# EAGLE library part MCP23S08-X/ML (library microchip2)
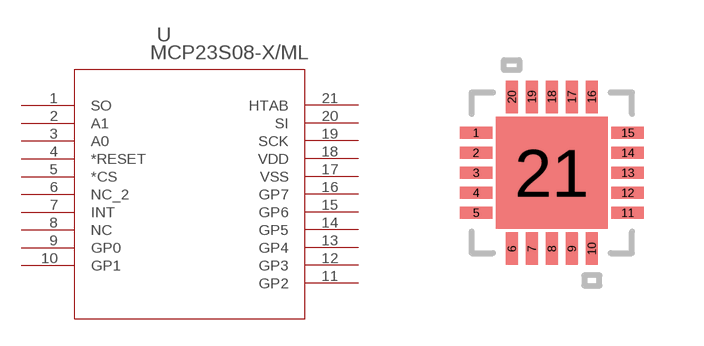
[diagram p3: symbol with the pads of QFN20_4X4MC; footprint QFN20_4X4MC]

Designator prefix -

## MCP23S08-X/ML  [QFN20_4X4MC]
1  SO  pas
2  A1  pas
3  A0  pas
4  *RESET  pas
5  *CS  pas
6  NC_2  pas
7  INT  pas
8  NC  pas
9  GP0  pas
10  GP1  pas
11  GP2  pas
12  GP3  pas
13  GP4  pas
14  GP5  pas
15  GP6  pas
16  GP7  pas
17  VSS  pas
18  VDD  pas
19  SCK  pas
20  SI  pas
21  HTAB  pas

## Footprint QFN20_4X4MC (pad centres in mm)
smd 0.813 x 0.305: 1 -1.898,1; 2 -1.898,0.5; 3 -1.898,0; 4 -1.898,-0.5; 5 -1.898,-1; 11 1.898,-1; 12 1.898,-0.5; 13 1.898,0; 14 1.898,0.5; 15 1.898,1
smd 0.305 x 0.813: 6 -1,-1.898; 7 -0.5,-1.898; 8 0,-1.898; 9 0.5,-1.898; 10 1,-1.898; 16 1,1.898; 17 0.5,1.898; 18 0,1.898; 19 -0.5,1.898; 20 -1,1.898
smd 2.794 x 2.794: 21 0,0